# EAGLE library part MMA7260/MMA7261 (library MMA726x)
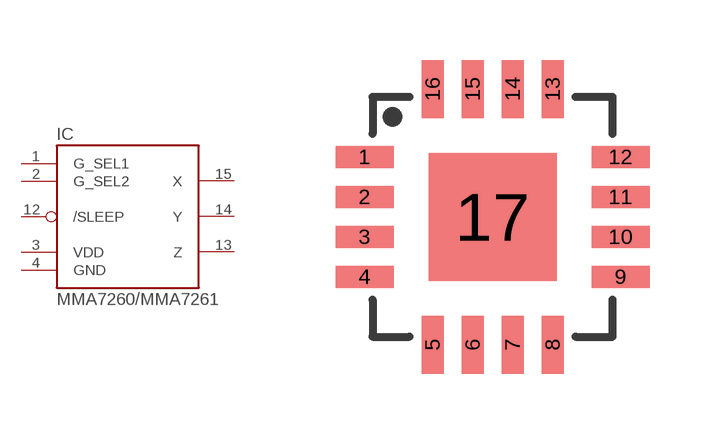
[diagram p0: symbol with the pads of QFN16-HS; footprint QFN16-HS]

Designator prefix IC

## MMA7260/MMA7261  [QFN16-HS]
1  G_SEL1  in
2  G_SEL2  in
3  VDD  pwr
4  GND  pwr
12  /SLEEP  in
13  Z  pas
14  Y  pas
15  X  pas

## Footprint QFN16-HS (pad centres in mm)
smd 1.45 x 0.55: 1 -3.2,1.5; 2 -3.2,0.5; 3 -3.2,-0.5; 4 -3.2,-1.5; 9 3.2,-1.5; 10 3.2,-0.5; 11 3.2,0.5; 12 3.2,1.5
smd 0.55 x 1.45: 5 -1.5,-3.2; 6 -0.5,-3.2; 7 0.5,-3.2; 8 1.5,-3.2; 13 1.5,3.2; 14 0.5,3.2; 15 -0.5,3.2; 16 -1.5,3.2
smd 3.2 x 3.2: 17 0,0